# Altium schematic symbol library integrated_circuits_schematic.SchLib: 128 symbols (part 5 of 5)
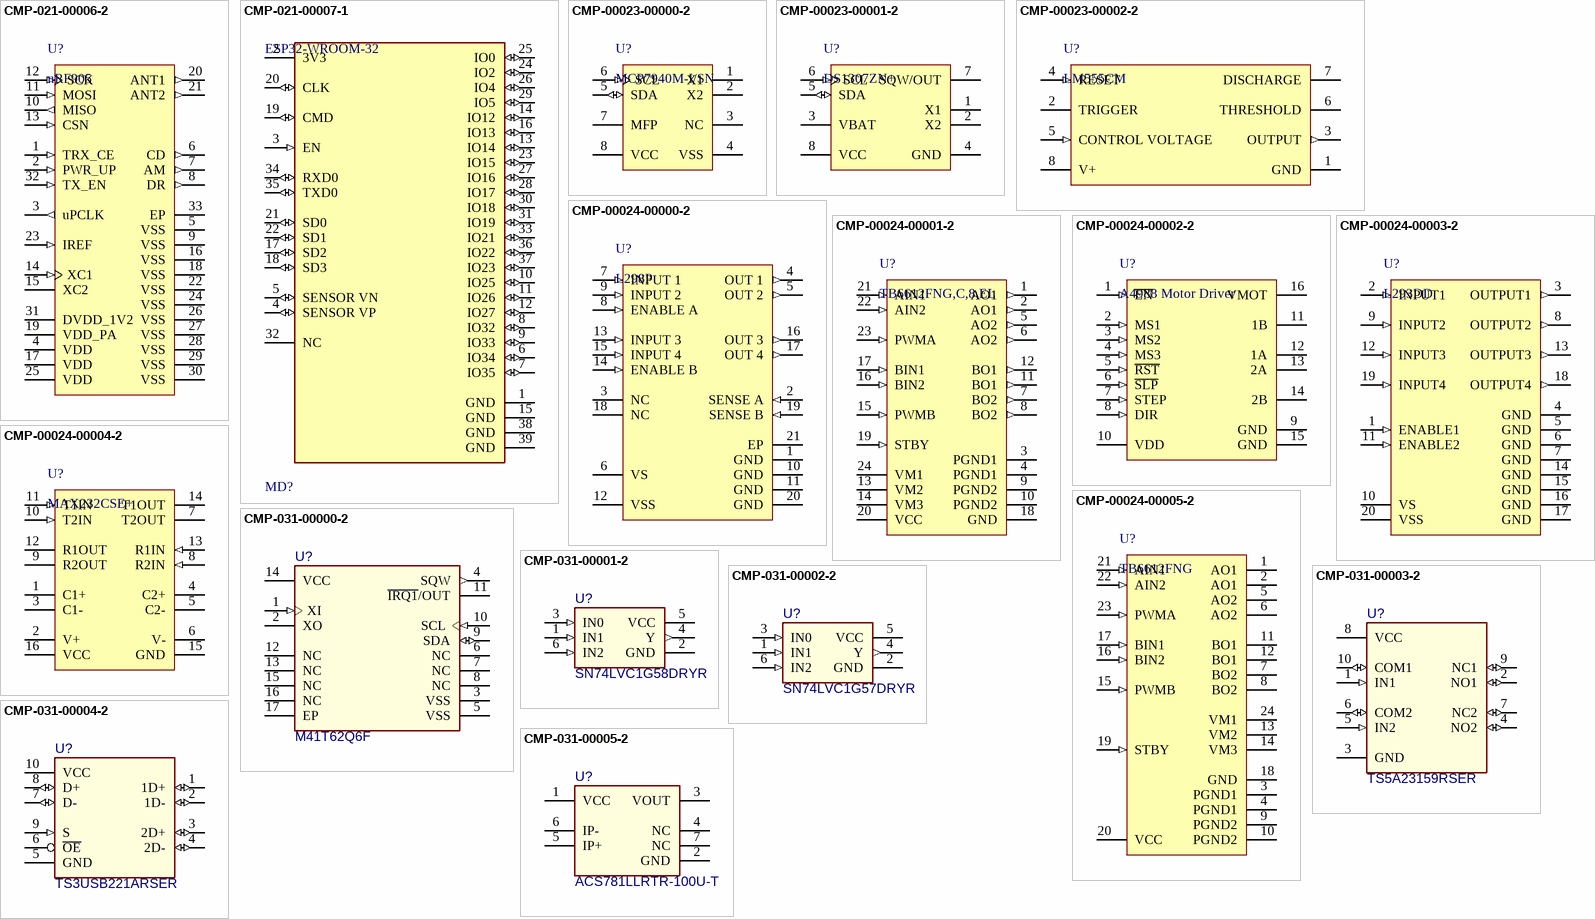
[diagram p11: symbols CMP-021-00006-2 to CMP-031-00005-2]

## CMP-021-00006-2
designator U?, comment nRF905
Single Chip Transceiver, 433 MHz, 1.9 to 3.6 V, -40 to 85 degC, 32-Pin QFN, RoHS, Tray; Manufacturer: Nordic Semiconductor; Interface: SPI; Frequency: 433MHz; Max Supply Voltage: 3.3V; Data Rate: 50Kbps; Min Supply Voltage: 1.9V; Mounting Technology: SM; Datasheet Version: Rev. 1.5, 04/2008; Min Operating Temperature: -40°C; RoHS Compliant: True; Manufacturer URL: http://www.nordicsemi.com/eng/Products/; Case/Package: QFN; Package Reference: QFN-32L; Pins: 32; Packaging: Tray; Package Quantity: 490; Datasheet URL: http://www.nordicsemi.com/eng/content/download/2452/29528/file/Product_Specification_nRF905_v1.5.pdf; Package Description: 32-Pin Quad Flat No-lead Package, Body 5 x 5 mm, Pitch 0.5 mm; Max Operating Temperature: 85°C
footprint NRSC-QFN-32L_L (QFN, 32-Leads, Body 5.00x5.00mm, Pitch 0.50mm, Thermal Pad 3.30x3.30mm, IPC High Density)
footprint NRSC-QFN-32L_N (QFN, 32-Leads, Body 5.00x5.00mm, Pitch 0.50mm, Thermal Pad 3.30x3.30mm, IPC Medium Density)
footprint NRSC-QFN-32L_M (QFN, 32-Leads, Body 5.00x5.00mm, Pitch 0.50mm, Thermal Pad 3.30x3.30mm, IPC Low Density)
pins: 1 TRX_CE (in) "Enables chip for receive and transmit", 2 PWR_UP (in) "Power up chip", 3 uPCLK (out) "Output clock, divided crystal oscillator full-swing clock", 4 VDD (power) "Power supply (+3V DC)", 5 VSS (power) "Ground (0V)", 6 CD (out) "Carrier Detect", 7 AM (out) "Address Match", 8 DR (out) "Receive and transmit Data Ready", 9 VSS (power) "Ground (0V)", 10 MISO (out) "SPI output", 11 MOSI (in) "SPI input", 12 SCK (in) "SPI clock", 13 CSN (in) "SPI enable, active low", 14 XC1 (in) "Crystal pin 1/ External clock reference pin", 15 XC2 "Crystal pin 2", 16 VSS (power) "Ground (0V)", 17 VDD (power) "Power supply (+3V DC)", 18 VSS (power) "Ground", 19 VDD_PA (power) "Positive supply (1.8V) to nRF905 power amplifier", 20 ANT1 (out) "Antenna interface 1", 21 ANT2 (out) "Antenna interface 2", 22 VSS (power) "Ground (0V)", 23 IREF (in) "Reference current", 24 VSS (power) "Ground (0V)", 25 VDD (power) "Power supply (+3V DC)", 26 VSS (power) "Ground (0V)", 27 VSS (power) "Ground (0V)", 28 VSS (power) "Ground (0V)", 29 VSS (power) "Ground (0V)", 30 VSS (power) "Ground (0V)", 31 DVDD_1V2 (power) "Low voltage positive digital supply output for de-coupling", 32 TX_EN (in) "TX_EN=”1”TX mode, TX_EN=”0”RX mode", 33 EP "Ground (0V)"

## CMP-021-00007-1
designator MD?, comment ESP32-WROOM-32
Bluetooth and Wi-Fi Module 2.4GHz to 2.5GHz 2.7V to 3.6V 38-Pin SMD Module; Max Operating Temperature: 85°C; Min Operating Temperature: -40°C; Frequency: 2.5GHz; Case/Package: SMD/SMT; Mounting Technology: Surface Mount
footprint FP-ESP32-WROOM-32-MFG
pins: 1 GND (power), 2 3V3 (power), 3 EN (in), 4 SENSOR VP (io), 5 SENSOR VN (io), 6 IO34 (io), 7 IO35 (io), 8 IO32 (io), 9 IO33 (io), 10 IO25 (io), 11 IO26 (io), 12 IO27 (io), 13 IO14 (io), 14 IO12 (io), 15 GND (power), 16 IO13 (io), 17 SD2 (io), 18 SD3 (io), 19 CMD (io), 20 CLK (io), 21 SD0 (io), 22 SD1 (io), 23 IO15 (io), 24 IO2 (io), 25 IO0 (io), 26 IO4 (io), 27 IO16 (io), 28 IO17 (io), 29 IO5 (io), 30 IO18 (io), 31 IO19 (io), 32 NC, 33 IO21 (io), 34 RXD0 (io), 35 TXD0 (io), 36 IO22 (io), 37 IO23 (io), 38 GND (power), 39 GND (power)

## CMP-00023-00000-2
designator U?, comment MCP7940M-I/SN
Low-Cost I2C(TM) Real-Time Clock/Calendar with SRAM, 64 Bytes SRAM, 1.8 to 5.5 V, -40 to 85 degC, 8-pin SOIC (SN8), Tube; Manufacturer: Microchip Technology; Package Version: C04-057C; Max Supply Voltage: 5.5V; Non-volatile Memory Size: 64B; Min Supply Voltage: 1.8V; Package Quantity: 100; Package URL: http://www.microchip.com/stellent/groups/techpub_sg/documents/packagingspec/en012702.pdf; Packaging: Rail/Tube; Case/Package: SOIC; Max Operating Temperature: 85°C; Manufacturer URL: http://www.microchip.com/; Package Description: 8-Lead Plastic Small Outline, Body 4.9 x 3.9 mm, Pitch 1.27 mm; Datasheet Version: Rev. A, 02/2012; Interface: I2C; Min Operating Temperature: -40°C; Mounting Technology: SM; Package Reference: SOIC-SN8; RoHS Compliant: True; Pins: 48; Datasheet URL: http://ww1.microchip.com/downloads/en/DeviceDoc/22292A.pdf
footprint MCHP-SOIC-SN8_V (SOIC, 8-Leads, Body 4.90x3.90mm, Pitch 1.27mm)
pins: 1 X1 "Xtal Input, External Oscillator Input", 2 X2 "Xtal Output", 3 NC "Not Connected", 4 VSS (power) "Ground", 5 SDA (io) "Bidirectional Serial Data", 6 SCL (in) "Serial Clock", 7 MFP (oc) "Multi-Function Pin", 8 VCC (power) "+1.8V to +5.5V Power Supply"

## CMP-00023-00001-2
designator U?, comment DS1307ZN+
I2C Real-Time Clock, 4.5 to 5.5 V, -40 to 85 degC, 8-Pin SOIC, RoHS, Tube; Manufacturer: Maxim; Max Supply Voltage: 5.5V; Min Supply Voltage: 4.5V; Outputs: 1; Package Version: Rev. D, 10/2012; Clock Frequency: 32.768KHz; Interface: Serial; Max Operating Temperature: 85°C; RoHS Compliant: True; Packaging: Rail/Tube; Manufacturer URL: http://www.maximintegrated.com/; Package Quantity: 100; Datasheet URL: http://datasheets.maximintegrated.com/en/ds/DS1307.pdf; Package Description: 8-Pin Small-Outline IC, Narrow (0.15in) (S8-2), Body 4.90 x 3.90 mm, Pitch 1.27 mm; Mounting Technology: SM; Package Reference: S8-2; Pins: 8; Case/Package: SOIC; Datasheet Version: Mar-15; Package URL: http://pdfserv.maximintegrated.com/package_dwgs/21-0041.PDF; Min Operating Temperature: -40°C
footprint MAXM-S8-2_N (SOIC, 8-Leads, Body 5x4mm, Pitch 1.27mm, IPC Medium Density)
footprint MAXM-S8-2_M (SOIC, 8-Leads, Body 5x4mm, Pitch 1.27mm, IPC Low Density)
footprint MAXM-S8-2_L (SOIC, 8-Leads, Body 5x4mm, Pitch 1.27mm, IPC High Density)
pins: 1 X1 "Connections for Standard 32.768kHz Quartz Crystal.", 2 X2 "Connections for Standard 32.768kHz Quartz Crystal.", 3 VBAT (power) "Backup Supply Input for Any Standard 3V Lithium Cell or Other Energy Source.", 4 GND (power) "Ground", 5 SDA (io) "Serial Data Input/Output.", 6 SCL (in) "Serial Clock Input.", 7 SQW/OUT (oc) "Square Wave/Output Driver.", 8 VCC (power) "Primary Power Supply."

## CMP-00023-00002-2
designator U?, comment LM555CM
Highly Stable 555 Timer for Generating Accurate Time Delays and Oscillation, 4.5 to 16 V, 0 to 70 degC, 8-Pin SOIC (D), Tube; Manufacturer: Texas Instruments (TI); Package Version: 4040047-3/M, 06/2011; Frequency: 100kHz; Max Supply Voltage: 16V; Max Ouput Current: -200mA; Min Supply Voltage: 4.5V; Power: 1.18W; Nominal Supply Current: 3mA; Channels: 1; Manufacturer URL: http://www.ti.com/; Pins: 8; Packaging: Rail/Tube; Datasheet Version: SNAS548D, 01/2015; RoHS Compliant: True; Package URL: http://www.ti.com/lit/ml/msoi002j/msoi002j.pdf; Package Reference: D0008A; Package Quantity: 95; Datasheet URL: http://www.ti.com/lit/ds/symlink/lm555.pdf; Min Operating Temperature: 0°C; Mounting Technology: SM; Max Operating Temperature: 70°C; Case/Package: SOIC; Package Description: 8-Pin Small Outline Integrated Circuit, Body 4.9 x 3.9 mm, Pitch 1.27 mm
footprint D0008A_N (SOIC, 8-Leads, Body 5x4mm, Pitch 1.27mm, IPC Medium Density)
footprint D0008A_L (SOIC, 8-Leads, Body 5x4mm, Pitch 1.27mm, IPC High Density)
footprint D0008A_M (SOIC, 8-Leads, Body 5x4mm, Pitch 1.27mm, IPC Low Density)
pins: 1 GND (power) "Ground reference voltage", 2 TRIGGER "Responsible for transition of the flip-flop from set to reset. The output of the timer depends on the amplitude of the external trigger pulse applied to this pin", 3 OUTPUT (out) "Output driven waveform", 4 RESET (in) "Negative pulse applied to this pin to disable or reset the timer. When not used for reset purposes, it should be connected to VCC to avoid false triggering", 5 CONTROL VOLTAGE (in) "Controls the threshold and trigger levels. It determines the pulse width of the output waveform. An external voltage applied to this pin can also be used to modulate the output waveform", 6 THRESHOLD "Compares the voltage applied to the terminal with a reference voltage of 2/3 Vcc. The amplitude of voltage applied to this terminal is responsible for the set state of the flip-flop", 7 DISCHARGE (oc) "Open collector output which discharges a capacitor between intervals (in phase with output). It toggles the output from high to low when voltage reaches 2/3 of the supply voltage", 8 V+ (power) "Supply voltage with respect to GND"

## CMP-00024-00000-2
designator U?, comment L298P
Dual Full-Bridge Driver, 4.5 to 7 V, -25 to 130 degC, 20-Pin SOIC, RoHS, Tube; Manufacturer: STMicroelectronics; Max Supply Voltage: 46V; Outputs: 4; Nominal Supply Voltage: 42V; Output Current: 2A; Min Supply Voltage: 4.8V; Max Operating Temperature: 130°C; Package Reference: PowerSO20; Manufacturer URL: http://www.st.com/; Package Quantity: 31; Case/Package: SOIC; Min Operating Temperature: -25°C; Datasheet Version: Jan-00; Pins: 20; Datasheet URL: http://www.st.com/content/ccc/resource/technical/document/datasheet/82/cc/3f/39/0a/29/4d/f0/CD00000240.pdf/files/CD00000240.pdf/jcr:content/translations/en.CD00000240.pdf; Packaging: Rail/Tube; Package Description: 20-Pin Small Outline Integrated Circuits, Body 15.9 x 11 mm, Pitch 1.27 mm; Mounting Technology: SM; RoHS Compliant: True
footprint STM-PowerSO20_N (SOIC, 20-Leads, Body 16x11.1mm, Pitch 1.27mm, Thermal Pad 16x6.2mm, IPC Medium Density)
footprint STM-PowerSO20_L (SOIC, 20-Leads, Body 16x11.1mm, Pitch 1.27mm, Thermal Pad 16x6.2mm, IPC High Density)
footprint STM-PowerSO20_M (SOIC, 20-Leads, Body 16x11.1mm, Pitch 1.27mm, Thermal Pad 16x6.2mm, IPC Low Density)
pins: 1 GND (power) "Ground.", 2 SENSE A (in) "Between this pin and ground is connected the sense resistor to control the current of the load.", 3 NC "Not Connected", 4 OUT 1 (out) "Outputs of the Bridge A; the current that flows through the load connected between these two pins is monitored at pin 1.", 5 OUT 2 (out) "Outputs of the Bridge A; the current that flows through the load connected between these two pins is monitored at pin 1.", 6 VS (power) "Supply Voltage for the Power Output Stages. A non-inductive 100nF capacitor must be connected between this pin and ground.", 7 INPUT 1 (in) "TTL Compatible Inputs of the Bridge A.", 8 ENABLE A (in) "TTL Compatible Enable Input: the L state disables the bridge A (enable A) and/or the bridge B (enable B).", 9 INPUT 2 (in) "TTL Compatible Inputs of the Bridge A.", 10 GND (power) "Ground.", 11 GND (power) "Ground.", 12 VSS (power) "Supply Voltage for the Logic Blocks. A100nF capacitor must be connected between this pin and ground.", 13 INPUT 3 (in) "TTL Compatible Inputs of the Bridge B.", 14 ENABLE B (in) "TTL Compatible Enable Input: the L state disables the bridge A (enable A) and/or the bridge B (enable B).", 15 INPUT 4 (in) "TTL Compatible Inputs of the Bridge B.", 16 OUT 3 (out) "Outputs of the Bridge B. The current that flows through the load connected between these two pins is monitored at pin 15.", 17 OUT 4 (out) "Outputs of the Bridge B. The current that flows through the load connected between these two pins is monitored at pin 15.", 18 NC "Not Connected", 19 SENSE B (in) "Between this pin and ground is connected the sense resistor to control the current of the load.", 20 GND (power) "Ground.", 21 EP "PAD"

## CMP-00024-00001-2
designator U?, comment TB6612FNG,C,8,EL
Driver IC for Dual DC Motor, 2.7 to 5.5 V, 1 A, -20 to 85 degC, 24-Pin SSOP, RoHS, Tape and Reel; Manufacturer: Toshiba; Interface: Parallel; Pins: 24; Manufacturer URL: http://www.toshiba.com/; Packaging: TapeandReel; Package Reference: SSOP-24; Max Operating Temperature: 85°C; RoHS Compliant: True; Min Operating Temperature: -20°C; Package Description: 24-Pin Shrink Small Outline Package Integrated Circuit, Body 7.8 x 5.6 mm, Pitch 0.65 mm; Datasheet URL: https://toshiba.semicon-storage.com/info/docget.jsp?did=10660&prodName=TB6612FNG; Package Quantity: 1; Datasheet Version: Oct-14; Case/Package: SSOP-24; Mounting Technology: SM
footprint TOSH-SSOP-24_N (SOP, 24-Leads, Body 8x5.8mm, Pitch 0.65mm, IPC Medium Density)
footprint TOSH-SSOP-24_L (SOP, 24-Leads, Body 8x5.8mm, Pitch 0.65mm, IPC High Density)
footprint TOSH-SSOP-24_M (SOP, 24-Leads, Body 8x5.8mm, Pitch 0.65mm, IPC Low Density)
pins: 1 AO1 (out) "ch A output 1", 2 AO1 (out) "ch A output 1", 3 PGND1 (power) "Power GND 1", 4 PGND1 (power) "Power GND 1", 5 AO2 (out) "ch A output 2", 6 AO2 (out) "ch A output 2", 7 BO2 (out) "ch B output 2", 8 BO2 (out) "ch B output 2", 9 PGND2 (power) "Power GND 2", 10 PGND2 (power) "Power GND 2", 11 BO1 (out) "ch B output 1", 12 BO1 (out) "ch B output 1", 13 VM2 (power) "Motor supply", 14 VM3 (power) "Motor supply", 15 PWMB (in) "ch B PWM input /200 KOhm pull-down at internal", 16 BIN2 (in) "ch B input 2/200 KOhm pull-down at internal", 17 BIN1 (in) "ch B input 1/200 KOhm pull-down at internal", 18 GND (power) "Small signal GND", 19 STBY (in) ""L" = standby/200 kOhm pull-down at internal", 20 VCC (power) "Small signal supply", 21 AIN1 (in) "ch A input 1/200 KOhm pull-down at internal", 22 AIN2 (in) "ch A input 2/200 KOhm pull-down at internal", 23 PWMA (in) "ch A PWM input /200 KOhm pull-down at internal", 24 VM1 (power) "Motor supply"

## CMP-00024-00002-2
designator U?, comment A4988 Motor Driver
Stepper Motor Driver Carrier, 3 to 5.5 V, 2 A, 16-Pin THD; Manufacturer: Pololu Robotics & Electronics; Datasheet Version: Dec-15; Package Description: 16-Pin Through Hole Device, Body 20.3 x 15.2 mm, Pitch 2.54 mm; Case/Package: A4988MotorDriver; Mounting Technology: TH; RoHS Compliant: Unknown; Datasheet URL: https://www.pololu.com/file/0J1082/a4988-stepper-motor-driver-carrier-dimension-diagram.pdf; Package Reference: A4988 Motor Driver
footprint Polo-A4988 Motor Driver_V (THD, 16-Leads, Body 20.3x15.2mm, Pitch 2.54mm)
pins: 1 ~{EN} (in), 2 MS1 (in), 3 MS2 (in), 4 MS3 (in), 5 ~{RST} (in), 6 ~{SLP} (in), 7 STEP (in), 8 DIR (in), 9 GND (power), 10 VDD (power), 11 1B (power), 12 1A (power), 13 2A (power), 14 2B (power), 15 GND (power), 16 VMOT (power)

## CMP-00024-00003-2
designator U?, comment L293DD
Push-Pull Four Channel Driver with Diodes, 4.5 to 36 V, 20-Pin SOIC, RoHS, Tube; Manufacturer: STMicroelectronics; Outputs: 4; Nominal Supply Voltage: 24V; Nominal Supply Current: 2mA; Output Current: 600mA; Max Supply Voltage: 36V; Min Supply Voltage: 4.5V; Package Reference: SOIC-20; Mounting Technology: SM; Datasheet Version: Jul-03; Manufacturer URL: http://www.st.com/; Pins: 20; Package Quantity: 40; Min Operating Temperature: -40°C; RoHS Compliant: True; Package Description: 20-Pin Small Outline Integrated Circuit, Body 12.8 x 7.5 mm, Pitch 1.27 mm; Case/Package: SOIC; Datasheet URL: http://www.st.com/content/ccc/resource/technical/document/datasheet/04/ac/22/f9/20/5d/43/a1/CD00000059.pdf/files/CD00000059.pdf/jcr:content/translations/en.CD00000059.pdf; Packaging: Rail/Tube; Max Operating Temperature: 150°C
footprint STM-SOIC-20_M (SOIC, 20-Leads, Body 13x7.6mm, Pitch 1.27mm, IPC Low Density)
footprint STM-SOIC-20_L (SOIC, 20-Leads, Body 13x7.6mm, Pitch 1.27mm, IPC High Density)
footprint STM-SOIC-20_N (SOIC, 20-Leads, Body 13x7.6mm, Pitch 1.27mm, IPC Medium Density)
pins: 1 ENABLE1 (in), 2 INPUT1 (in), 3 OUTPUT1 (out), 4 GND (power), 5 GND (power), 6 GND (power), 7 GND (power), 8 OUTPUT2 (out), 9 INPUT2 (in), 10 VS (power), 11 ENABLE2 (in), 12 INPUT3 (in), 13 OUTPUT3 (out), 14 GND (power), 15 GND (power), 16 GND (power), 17 GND (power), 18 OUTPUT4 (out), 19 INPUT4 (in), 20 VSS (power)

## CMP-00024-00004-2
designator U?, comment MAX232CSE+
Multichannel RS-232 Driver/Receiver, 5 V, 0 to 70 degC, 16-Pin SOIC (S16+3), RoHS, Tube; Manufacturer: Maxim; Package Version: Rev. G, 01/2016; Min Supply Voltage: 4.5V; Max Supply Voltage: 5.5V; Receivers: 2; Propagation Delay: 10us; Nominal Supply Current: 10mA; Data Rate: 120Kbps; Nominal Supply Voltage: 5V; Package URL: http://pdfserv.maximintegrated.com/package_dwgs/21-0041.PDF; Min Operating Temperature: 0°C; Datasheet URL: https://datasheets.maximintegrated.com/en/ds/MAX220-MAX249.pdf; Package Quantity: 50; Case/Package: SOIC; Package Description: 16-Pin Small Outline Integrated Circuit, Body 9.9 x 3.9 mm, Pitch 1.27 mm; Package Reference: S16+5; Interface: RS-232; Pins: 16; Manufacturer URL: http://www.maximintegrated.com/; Channels: 2; RoHS Compliant: True; Mounting Technology: SM; Packaging: Rail/Tube; Max Operating Temperature: 70°C; Datasheet Version: Rev. 17, 01/2015
footprint MAXM-S16+5_N (SOIC, 16-Leads, Body 10x4mm, Pitch 1.27mm, IPC Medium Density)
footprint MAXM-S16+5_L (SOIC, 16-Leads, Body 10x4mm, Pitch 1.27mm, IPC High Density)
footprint MAXM-S16+5_M (SOIC, 16-Leads, Body 10x4mm, Pitch 1.27mm, IPC Low Density)
pins: 1 C1+, 2 V+ (power), 3 C1-, 4 C2+, 5 C2-, 6 V- (power), 7 T2OUT (hiz), 8 R2IN (in), 9 R2OUT (hiz), 10 T2IN (in), 11 T1IN (in), 12 R1OUT (hiz), 13 R1IN (in), 14 T1OUT (hiz), 15 GND (power), 16 VCC (power)

## CMP-00024-00005-2
designator U?, comment TB6612FNG
Driver IC for Dual DC Motor, 15 V, -20 to 85 degC, 24-Pin SSOP, RoHS, Tape and Reel; Manufacturer: Toshiba; Case/Package: SSOP-24; RoHS Compliant: False; Package Description: 24-Pin Shrink Small Outline Package Integrated Circuit, Body 7.8 x 5.6 mm, Pitch 0.65 mm; Package Reference: SSOP-24; Datasheet Version: Oct-14; Mounting Technology: SM; Manufacturer URL: http://www.toshiba.com/; Datasheet URL: https://toshiba.semicon-storage.com/info/docget.jsp?did=10660&prodName=TB6612FNG
footprint TOSH-SSOP-24_N (SOP, 24-Leads, Body 8x5.8mm, Pitch 0.65mm, IPC Medium Density)
footprint TOSH-SSOP-24_L (SOP, 24-Leads, Body 8x5.8mm, Pitch 0.65mm, IPC High Density)
footprint TOSH-SSOP-24_M (SOP, 24-Leads, Body 8x5.8mm, Pitch 0.65mm, IPC Low Density)
pins: 1 AO1 (hiz) "chA output1", 2 AO1 (hiz) "chA output1", 3 PGND1 (power) "Power GND 1", 4 PGND1 (power) "Power GND 1", 5 AO2 (hiz) "chA output2", 6 AO2 (hiz) "chA output2", 7 BO2 (hiz) "chB output2", 8 BO2 (hiz) "chB output2", 9 PGND2 (power) "Power GND 2", 10 PGND2 (power) "Power GND 2", 11 BO1 (hiz) "chB output1", 12 BO1 (hiz) "chB output1", 13 VM2 (power) "Motor supply(2.5V~13.5V)", 14 VM3 (power) "Motor supply(2.5V~13.5V)", 15 PWMB (in) "chB PWM input / 200kohm pull-down at internal", 16 BIN2 (in) "chB input2 / 200kohm pull-down at internal", 17 BIN1 (in) "chB input1 / 200kohm pull-down at internal", 18 GND (power) "Small signal GND", 19 STBY (in) "“L”=standby / 200kohm pull-down at internal", 20 VCC (power) "Small signal supply (2.7V~5.5V)", 21 AIN1 (in) "chA input2 / 200kohm pull-down at internal", 22 AIN2 (in) "chA input1 / 200kohm pull-down at internal", 23 PWMA (in) "chA PWM input / 200kohm pull-down at internal", 24 VM1 (power) "Motor supply(2.5V~13.5V)"

## CMP-031-00000-2
designator U?, comment M41T62Q6F
Low-Power Serial Real-Time Clock (RTC) with Alarm, 1.3 to 4.4 V, -40 to 85 degC, 16-Pin QFN, RoHS, Tape and Reel; Max Supply Voltage: 4.4V; Min Supply Voltage: 1.3V; Case/Package: QFN; Pins: 17; Max Operating Temperature: 85°C; Mounting Technology: SurfaceMount; Min Operating Temperature: -40°C
footprint STM-QFN-16_V (QFN, 16-Leads, Body 3x3mm, Pitch 0.5mm, Thermal Pad 1.8x1.8mm)
footprint STM-QFN-16_V (QFN, 16-Leads, Body 3x3mm, Pitch 0.5mm, Thermal Pad 1.8x1.8mm)
pins: 1 XI (in) "32 KHz oscillator input", 2 XO "32 KHz oscillator output", 3 VSS (power), 4 SQW (out) "32 KHz programmable square wave output", 5 VSS (power) "Battery supply voltage (tie VBAT to VSS if no battery is connected.)", 6 NC "Ground", 7 NC, 8 NC, 9 SDA (io) "Serial data input/output", 10 SCL (in) "Serial clock input", 11 ~{IRQ1}/OUT (oc) "Interrupt 1/output driver/frequency test output (open drain)", 12 NC, 13 NC, 14 VCC (power) "Supply voltage", 15 NC, 16 NC, 17 EP

## CMP-031-00001-2
designator U?, comment SN74LVC1G58DRYR
CONFIGURABLE MULTIPLE-FUNCTION GATE, DRY0006A, LARGE T&R; Pins: 6
footprint DRY0006A_V (SON, 6-Leads, Body 1.45x1mm, Pitch 0.5mm)
footprint DRY0006A_V (SON, 6-Leads, Body 1.45x1mm, Pitch 0.5mm)
pins: 1 IN1 (in), 2 GND (power), 3 IN0 (in), 4 Y (out), 5 VCC (power), 6 IN2 (in)

## CMP-031-00002-2
designator U?, comment SN74LVC1G57DRYR
CONFIGURABLE MULTIPLE-FUNCTION GATE, DRY0006A, LARGE T&R; Pins: 6
footprint DRY0006A_V (SON, 6-Leads, Body 1.45x1mm, Pitch 0.5mm)
footprint DRY0006A_V (SON, 6-Leads, Body 1.45x1mm, Pitch 0.5mm)
pins: 1 IN1 (in), 2 GND (power), 3 IN0 (in), 4 Y (out), 5 VCC (power), 6 IN2 (in)

## CMP-031-00003-2
designator U?, comment TS5A23159RSER
IC SWITCH DUAL SPDT 10UQFN; Min Supply Voltage: 1.65V; Max Supply Voltage: 5.5V; Max Operating Temperature: 85°C; Pins: 10; Min Operating Temperature: -40°C; Case/Package: QFN
footprint RSE0010A_V (QFN, 10-Leads, Body 1.5x2mm, Pitch 0.5mm, TI Recommended)
footprint RSE0010A_V (QFN, 10-Leads, Body 1.5x2mm, Pitch 0.5mm, TI Recommended)
pins: 1 IN1 (in), 2 NO1 (io), 3 GND (power), 4 NO2 (io), 5 IN2 (in), 6 COM2 (io), 7 NC2 (io), 8 VCC (power), 9 NC1 (io), 10 COM1 (io)

## CMP-031-00004-2
designator U?, comment TS3USB221ARSER
ESD Protected, High-Speed USB 2.0 (480 Mbps) 1:2 Multiplexer / Demultiplexer Switch, 6 ohm RON, 2.5 to 3.3V, -40 to 85 degC, 10-Pin UQFN (RSE), Green (RoHS & no Sb/Br); Min Supply Voltage: 2.3V; Max Supply Voltage: 3.6V; Min Operating Temperature: -40°C; Mounting Technology: Surface Mount; Case/Package: QFN; Max Operating Temperature: 85°C; Pins: 10
footprint RSE0010A_V (QFN, 10-Leads, Body 1.5x2mm, Pitch 0.5mm, TI Recommended)
footprint RSE0010A_V (QFN, 10-Leads, Body 1.5x2mm, Pitch 0.5mm, TI Recommended)
pins: 1 1D+ (io) "Bus B", 2 1D- (io) "Bus B", 3 2D+ (io) "Bus B", 4 2D- (io) "Bus B", 5 GND (power) "Ground", 6 ~{OE} "Bus-switch enable", 7 D- (io) "Bus A", 8 D+ (io) "Bus A", 9 S (in) "Select input", 10 VCC (power) "Power supply"

## CMP-031-00005-2
designator U?, comment ACS781LLRTR-100U-T
High-Precision Linear Hall-Effect-Based Current Sensor IC with 200 u? Current Conductor, 3 to 3.6 V, -40 to 150 degC, 7-Pin PSOF, RoHS, Tape and Reel; Pins: 7
footprint ALEG-PSOF-7_V (SOF, 8-Leads, Body 4.8x6.4mm)
footprint ALEG-PSOF-7_V (SOF, 8-Leads, Body 4.8x6.4mm)
pins: 1 VCC (power) "Device power supply terminal", 2 GND (power) "Signal ground terminal", 3 VOUT (power) "Analog output signal", 4 NC "No connection", 5 IP+ "Terminal for current being sampled", 6 IP- "Terminal for current being sampled", 7 NC "No connection"